# Altium footprint library Nick.PcbLib: 22 footprints (part 1 of 2)
Each footprint in its own frame and in the unit in brackets; x right, y up, seen from the top. Pads: shape width x height; smd on the part's side, far side on the other; paste and mask are expansions set on the pad; w line width, h text height; cw(c..) or ccw(c..) is an arc to the next point about the centre after c.
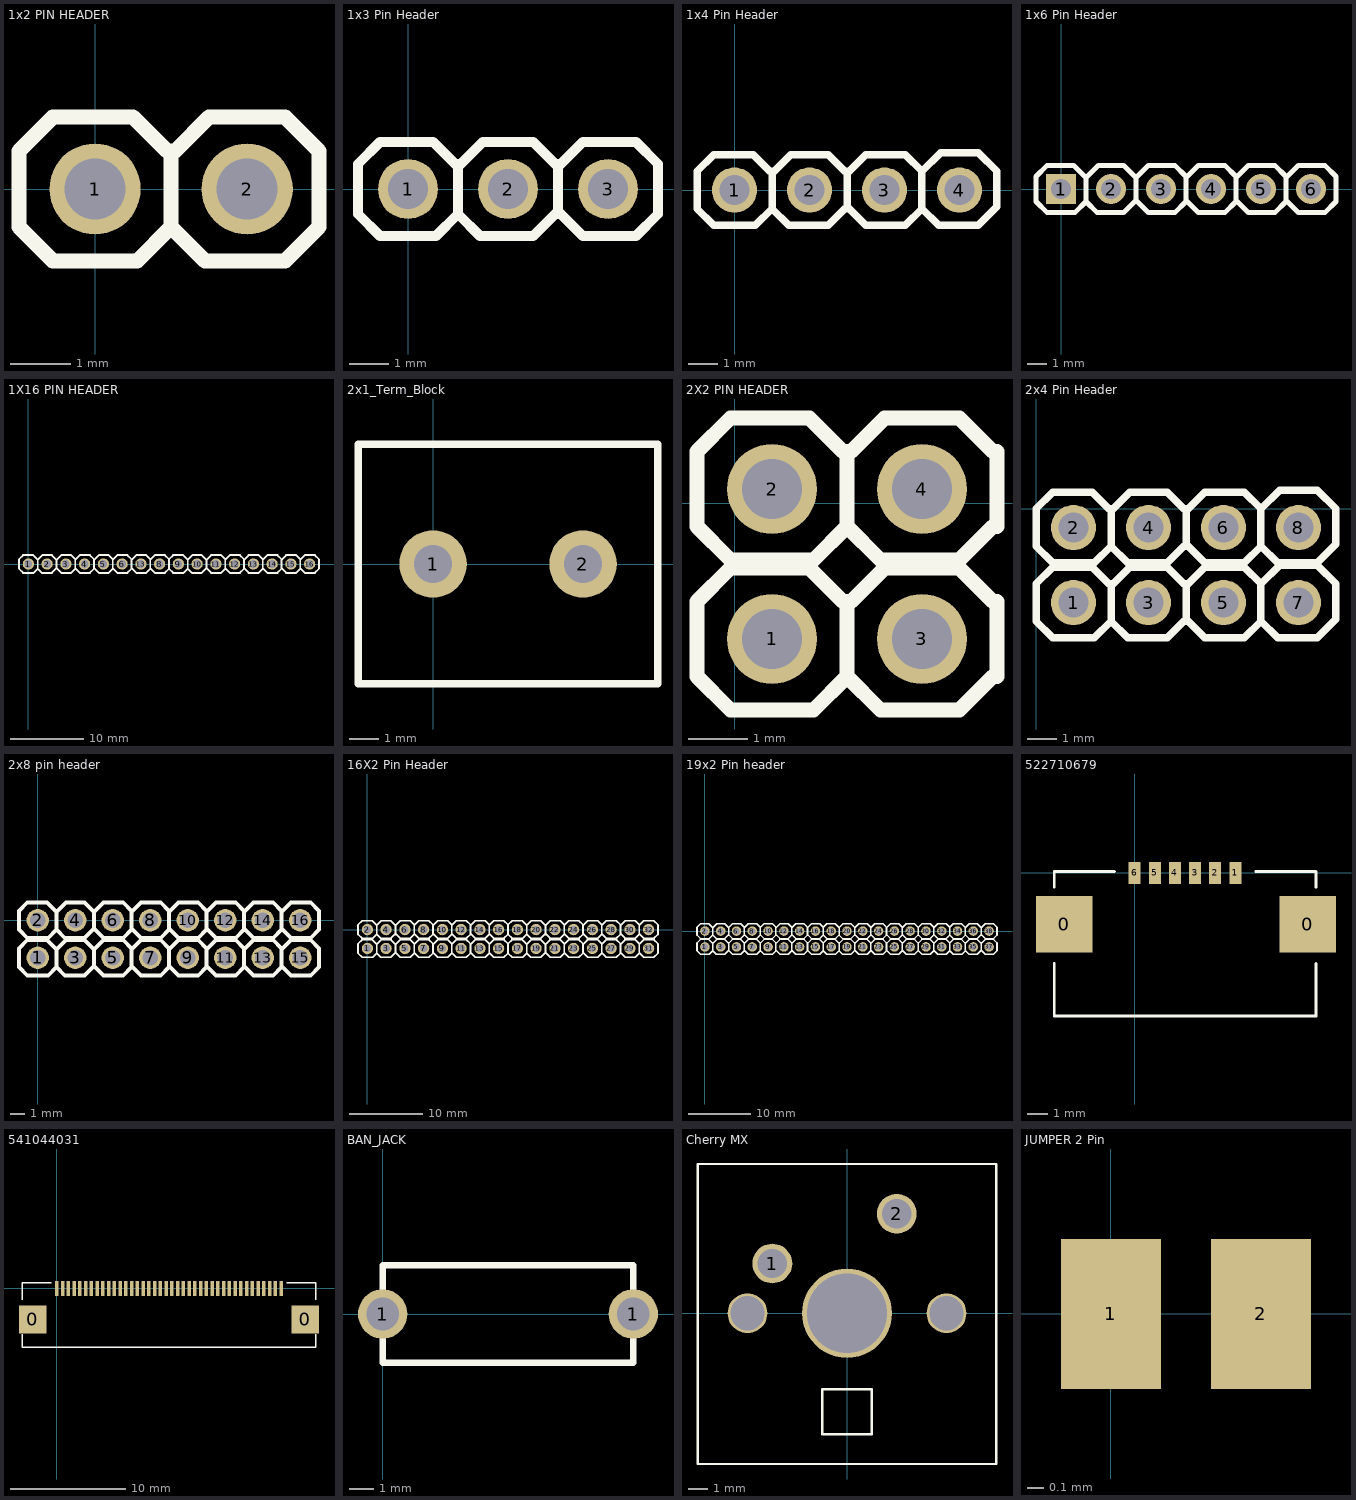
[diagram p0: the footprints below, top view; thin cyan lines are the x and y axes]

## 1x2 PIN HEADER [mil]
pads (2):
  round 60 hole 40.16: 1(0,0) 2(100,0)
Top Overlay:
  lines w10: -25,47.24 -27.76,47.24 ; -27.76,47.24 25,47.24 47.24,25 50,25 ; -27.76,47.24 -50,25 -50,-25 -27.76,-47.24 25,-47.24 27.76,-47.24 50,-25 ; 50,-25 50,25 ; 50,-25 72.24,-47.24 125,-47.24 147.24,-25 147.24,25 125,47.24 75,47.24 52.76,25 50,25

## 1x3 Pin Header [mil]
pads (3):
  round 60 hole 40.16: 1(0,0) 2(100,0) 3(200,0)
Top Overlay:
  lines w10: -25,47.24 -27.76,47.24 ; 225,-47.24 227.76,-47.24 ; 225,47.24 227.76,47.24 ; -27.76,47.24 -50,25 -50,-25 -27.76,-47.24 25,-47.24 27.76,-47.24 50,-25 ; -27.76,47.24 25,47.24 47.24,25 50,25 ; 50,-25 72.24,-47.24 125,-47.24 147.24,-25 150,-25 ; 50,-25 50,25 ; 50,25 52.76,25 75,47.24 125,47.24 147.24,25 150,25 ; 150,-25 152.76,-25 175,-47.24 227.76,-47.24 ; 150,-25 150,25 ; 150,25 152.76,25 175,47.24 227.76,47.24 ; 227.76,-47.24 250,-25 250,25 227.76,47.24

## 1x4 Pin Header [mil]
pads (4):
  round 60 hole 40.16: 1(0,0) 2(100,0) 3(200,0) 4(300,0)
Top Overlay:
  lines w10: -25,47.24 -27.76,47.24 ; 225,-47.24 227.76,-47.24 ; 225,47.24 227.76,47.24 ; -27.76,47.24 -50,25 -50,-25 -27.76,-47.24 25,-47.24 27.76,-47.24 50,-25 ; -27.76,47.24 25,47.24 47.24,25 50,25 ; 50,-25 72.24,-47.24 125,-47.24 147.24,-25 150,-25 ; 50,-25 50,25 ; 50,25 52.76,25 75,47.24 125,47.24 147.24,25 150,25 ; 150,-25 152.76,-25 175,-47.24 227.76,-47.24 ; 150,-25 150,25 ; 150,25 152.76,25 175,47.24 227.76,47.24 ; 227.76,-47.24 250,-25 ; 227.76,47.24 250,25 ; 250,-25 272.24,-47.24 325,-47.24 347.24,-25 350,-22.24 350,25 ; 250,-25 250,25 ; 250,25 275,50 325,50 ; 325,50 350,25 ; 325,50 350,25

## 1x6 Pin Header [mil]
pads (6):
  rect 60x60 hole 40.16: 1(0,0)
  round 60 hole 40.16: 2(100,0) 3(200,0) 4(300,0) 5(400,0) 6(500,0)
Top Overlay:
  lines w10: -25,47.24 -27.76,47.24 ; 225,47.24 227.76,47.24 ; 252.76,-25 275,-47.24 327.76,-47.24 350,-25 ; 252.76,25 275,47.24 327.76,47.24 350,25 ; 352.76,-25 375,-47.24 427.76,-47.24 450,-25 ; 352.76,25 375,47.24 427.76,47.24 450,25 ; 452.76,-25 475,-47.24 527.76,-47.24 550,-25 ; 452.76,25 475,47.24 527.76,47.24 550,25 ; -27.76,47.24 -50,25 -50,-25 -27.76,-47.24 27.76,-47.24 50,-25 ; -27.76,47.24 25,47.24 47.24,25 50,25 ; 50,-25 72.24,-47.24 125,-47.24 147.24,-25 150,-25 ; 50,-25 50,25 ; 50,25 52.76,25 75,47.24 125,47.24 147.24,25 150,25 ; 150,-25 152.76,-25 175,-47.24 227.76,-47.24 250,-25 ; 150,-25 150,25 ; 150,25 152.76,25 175,47.24 227.76,47.24 ; 227.76,47.24 250,25 ; 250,-25 250,25 ; 250,-25 250,25 ; 350,-25 350,25 ; 350,-25 350,25 ; 450,-25 450,25 ; 450,-25 450,25 ; 550,-25 550,25 ; 550,-25 550,25

## 1X16 PIN HEADER [mil]
pads (16):
  round 60 hole 40.16: 1(0,0) 2(100,0) 3(200,0) 4(300,0) 5(400,0) 6(500,0) 8(700,0) 9(800,0) 10(900,0) 11(1000,0) 12(1100,0) 13(600,0) 13(1200,0) 14(1300,0) 15(1400,0) 16(1500,0)
Top Overlay:
  lines w10: -25,47.24 -27.76,47.24 ; 225,-47.24 227.76,-47.24 ; 225,47.24 227.76,47.24 ; 252.76,-25 275,-47.24 327.76,-47.24 350,-25 ; 252.76,25 275,47.24 327.76,47.24 350,25 ; 352.76,-25 375,-47.24 427.76,-47.24 450,-25 ; 352.76,25 375,47.24 427.76,47.24 450,25 ; 452.76,-25 475,-47.24 527.76,-47.24 550,-25 ; 452.76,25 475,47.24 527.76,47.24 550,25 ; 552.76,-25 575,-47.24 627.76,-47.24 650,-25 ; 552.76,25 575,47.24 627.76,47.24 650,25 ; 652.76,-25 675,-47.24 727.76,-47.24 750,-25 ; 652.76,25 675,47.24 727.76,47.24 750,25 ; 775,47.24 772.24,47.24 ; 1025,-47.24 1027.76,-47.24 ; 1025,47.24 1027.76,47.24 ; 1052.76,-25 1075,-47.24 1127.76,-47.24 1150,-25 ; 1052.76,25 1075,47.24 1127.76,47.24 1150,25 ; 1152.76,-25 1175,-47.24 1227.76,-47.24 1250,-25 ; 1152.76,25 1175,47.24 1227.76,47.24 1250,25 ; 1252.76,-25 1275,-47.24 1327.76,-47.24 1350,-25 ; 1252.76,25 1275,47.24 1327.76,47.24 1350,25 ; 1352.76,-25 1375,-47.24 1427.76,-47.24 1450,-25 ; 1352.76,25 1375,47.24 1427.76,47.24 1450,25 ; 1452.76,-25 1475,-47.24 1527.76,-47.24 1550,-25 1550,25 1527.76,47.24 1475,47.24 1452.76,25 ; -27.76,47.24 25,47.24 47.24,25 50,25 ; -27.76,47.24 -50,25 -50,-25 -27.76,-47.24 25,-47.24 27.76,-47.24 50,-25 ; 50,-25 50,25 ; 50,-25 72.24,-47.24 125,-47.24 147.24,-25 150,-25 ; 50,25 52.76,25 75,47.24 125,47.24 147.24,25 150,25 ; 150,-25 150,25 ; 150,-25 152.76,-25 175,-47.24 227.76,-47.24 ; 150,25 152.76,25 175,47.24 227.76,47.24 ; 227.76,-47.24 250,-25 ; 227.76,47.24 250,25 ; 250,-25 250,25 ; 250,-25 250,25 ; 350,-25 350,25 ; 350,-25 350,25 ; 450,-25 450,25 ; 450,-25 450,25 ; 550,-25 550,25 ; 550,-25 550,25 ; 650,-25 650,25 ; 650,-25 650,25 ; 750,-25 750,25 ; 750,-25 750,25 ; 750,-25 772.24,-47.24 825,-47.24 827.76,-47.24 850,-25 ; 750,25 772.24,47.24 ; 772.24,47.24 825,47.24 847.24,25 850,25 ; 850,-25 850,25 ; 850,-25 872.24,-47.24 925,-47.24 947.24,-25 950,-25 ; 850,25 852.76,25 875,47.24 925,47.24 947.24,25 950,25 ; 950,-25 950,25 ; 950,-25 952.76,-25 975,-47.24 1027.76,-47.24 ; 950,25 952.76,25 975,47.24 1027.76,47.24 ; 1027.76,-47.24 1050,-25 ; 1027.76,47.24 1050,25 ; 1050,-25 1050,25 ; 1050,-25 1050,25 ; 1150,-25 1150,25 ; 1150,-25 1150,25 ; 1250,-25 1250,25 ; 1250,-25 1250,25 ; 1350,-25 1350,25 ; 1350,-25 1350,25 ; 1450,-25 1450,25 ; 1450,-25 1450,25

## 2x1_Term_Block [mil] "Phoenix Contact 1729128"
pads (2):
  round 90 hole 51.18: 1(0,0) 2(200,0)
Top Overlay:
  lines w10: -100,-159.45 -100,159.45 300,159.45 300,-159.45 -100,-159.45
3D body: height 10, standoff 0, extent -60,300 -60,300
3D body "Term_Block.step": height 393.7, standoff -137.8, extent -122.44,-159.45 300,159.45

## 2X2 PIN HEADER [mm]
pads (4):
  round 1.524 hole 1.02: 1(0.63,-2.295) 2(0.63,0.245) 3(3.17,-2.295) 4(3.17,0.245)
Top Overlay:
  lines w0.254: -0.005,-1.095 -0.075,-1.095 ; -0.005,1.445 -0.075,1.445 ; -0.075,-1.095 1.265,-1.095 1.83,-1.66 1.9,-1.66 ; -0.075,-1.095 -0.64,-1.66 -0.64,-2.93 -0.075,-3.495 1.265,-3.495 1.335,-3.495 1.9,-2.93 ; -0.075,1.445 1.265,1.445 1.83,0.88 1.9,0.88 ; -0.075,1.445 -0.64,0.88 -0.64,-0.39 -0.075,-0.955 1.265,-0.955 1.335,-0.955 1.9,-0.39 ; 1.9,-2.93 1.9,-1.66 ; 1.9,-2.93 2.465,-3.495 3.805,-3.495 4.37,-2.93 4.44,-2.93 4.44,-1.66 4.37,-1.66 3.805,-1.095 2.535,-1.095 1.97,-1.66 1.9,-1.66 ; 1.9,-0.39 1.9,0.88 ; 1.9,-0.39 2.465,-0.955 3.805,-0.955 4.37,-0.39 4.44,-0.39 4.44,0.88 4.37,0.88 3.805,1.445 2.535,1.445 1.97,0.88 1.9,0.88

## 2x4 Pin Header [mil]
pads (8):
  round 60 hole 40.16: 1(50,-125) 2(50,-25) 3(150,-125) 4(150,-25) 5(250,-125) 6(250,-25) 7(350,-125) 8(350,-25)
Top Overlay:
  lines w10: 25,-77.76 22.24,-77.76 ; 25,22.24 22.24,22.24 ; 275,-172.24 277.76,-172.24 ; 275,-77.76 277.76,-77.76 ; 275,-72.24 277.76,-72.24 ; 275,22.24 277.76,22.24 ; 22.24,-77.76 75,-77.76 97.24,-100 100,-100 ; 22.24,-77.76 0,-100 0,-150 22.24,-172.24 75,-172.24 77.76,-172.24 100,-150 ; 22.24,22.24 75,22.24 97.24,0 100,0 ; 22.24,22.24 0,0 0,-50 22.24,-72.24 75,-72.24 77.76,-72.24 100,-50 ; 100,-150 100,-100 ; 100,-150 122.24,-172.24 175,-172.24 197.24,-150 200,-150 ; 100,-100 102.76,-100 125,-77.76 175,-77.76 197.24,-100 200,-100 ; 100,-50 100,0 ; 100,-50 122.24,-72.24 175,-72.24 197.24,-50 200,-50 ; 100,0 102.76,0 125,22.24 175,22.24 197.24,0 200,0 ; 200,-150 200,-100 ; 200,-150 202.76,-150 225,-172.24 277.76,-172.24 ; 200,-100 202.76,-100 225,-77.76 277.76,-77.76 ; 200,-50 200,0 ; 200,-50 202.76,-50 225,-72.24 277.76,-72.24 ; 200,0 202.76,0 225,22.24 277.76,22.24 ; 277.76,-172.24 300,-150 ; 277.76,-77.76 300,-100 ; 277.76,-72.24 300,-50 ; 277.76,22.24 300,0 ; 300,-150 300,-100 ; 300,-150 322.24,-172.24 375,-172.24 397.24,-150 400,-147.24 400,-100 ; 300,-100 325,-75 375,-75 ; 300,-50 300,0 ; 300,-50 322.24,-72.24 375,-72.24 397.24,-50 400,-47.24 400,0 ; 300,0 325,25 375,25 ; 375,-75 400,-100 ; 375,-75 400,-100 ; 375,25 400,0 ; 375,25 400,0
3D body "pin_header_awl254-da-g08d.stp": height 98.43, standoff -216.54, extent 1.58,-139.37 401.58,367.72

## 2x8 pin header [mil]
pads (16):
  round 60 hole 40.16: 1(0,-100) 2(0,0) 3(100,-100) 4(100,0) 5(200,-100) 6(200,0) 7(300,-100) 8(300,0) 9(400,-100) 10(400,0) 11(500,-100) 12(500,0) 13(600,-100) 14(600,0) 15(700,-100) 16(700,0)
Top Overlay:
  lines w10: -25,-52.76 -27.76,-52.76 ; -25,47.24 -27.76,47.24 ; 225,-147.24 227.76,-147.24 ; 225,-52.76 227.76,-52.76 ; 225,-47.24 227.76,-47.24 ; 225,47.24 227.76,47.24 ; 252.76,-125 275,-147.24 327.76,-147.24 350,-125 ; 252.76,-75 275,-52.76 327.76,-52.76 350,-75 ; 252.76,-25 275,-47.24 327.76,-47.24 350,-25 ; 252.76,25 275,47.24 327.76,47.24 350,25 ; 352.76,-125 375,-147.24 427.76,-147.24 450,-125 ; 352.76,-75 375,-52.76 427.76,-52.76 450,-75 ; 352.76,-25 375,-47.24 427.76,-47.24 450,-25 ; 352.76,25 375,47.24 427.76,47.24 450,25 ; 452.76,-125 475,-147.24 527.76,-147.24 550,-125 ; 452.76,-75 475,-52.76 527.76,-52.76 550,-75 ; 452.76,-25 475,-47.24 527.76,-47.24 550,-25 ; 452.76,25 475,47.24 527.76,47.24 550,25 ; 552.76,-125 575,-147.24 627.76,-147.24 650,-125 ; 552.76,-75 575,-52.76 627.76,-52.76 650,-75 ; 552.76,-25 575,-47.24 627.76,-47.24 650,-25 ; 552.76,25 575,47.24 627.76,47.24 650,25 ; 652.76,-125 675,-147.24 727.76,-147.24 750,-125 750,-75 727.76,-52.76 675,-52.76 652.76,-75 ; 652.76,-25 675,-47.24 727.76,-47.24 750,-25 750,25 727.76,47.24 675,47.24 652.76,25 ; -27.76,-52.76 -50,-75 -50,-125 -27.76,-147.24 25,-147.24 27.76,-147.24 50,-125 ; -27.76,-52.76 25,-52.76 47.24,-75 50,-75 ; -27.76,47.24 25,47.24 47.24,25 50,25 ; -27.76,47.24 -50,25 -50,-25 -27.76,-47.24 25,-47.24 27.76,-47.24 50,-25 ; 50,-125 72.24,-147.24 125,-147.24 147.24,-125 150,-125 ; 50,-125 50,-75 ; 50,-75 52.76,-75 75,-52.76 125,-52.76 147.24,-75 150,-75 ; 50,-25 50,25 ; 50,-25 72.24,-47.24 125,-47.24 147.24,-25 150,-25 ; 50,25 52.76,25 75,47.24 125,47.24 147.24,25 150,25 ; 150,-125 152.76,-125 175,-147.24 227.76,-147.24 ; 150,-125 150,-75 ; 150,-75 152.76,-75 175,-52.76 227.76,-52.76 ; 150,-25 150,25 ; 150,-25 152.76,-25 175,-47.24 227.76,-47.24 ; 150,25 152.76,25 175,47.24 227.76,47.24 ; 227.76,-147.24 250,-125 ; 227.76,-52.76 250,-75 ; 227.76,-47.24 250,-25 ; 227.76,47.24 250,25 ; 250,-125 250,-75 ; 250,-125 250,-75 ; 250,-25 250,25 ; 250,-25 250,25 ; 350,-125 350,-75 ; 350,-125 350,-75 ; 350,-25 350,25 ; 350,-25 350,25 ; 450,-125 450,-75 ; 450,-125 450,-75 ; 450,-25 450,25 ; 450,-25 450,25 ; 550,-125 550,-75 ; 550,-125 550,-75 ; 550,-25 550,25 ; 550,-25 550,25 ; 650,-125 650,-75 ; 650,-125 650,-75 ; 650,-25 650,25 ; 650,-25 650,25
3D body: height 10, standoff 0, extent 300,-50 300,-50
3D body "pin_header_awl254-dg-g16d.stp": height 334.65, standoff -118.11, extent -50,-150 750,50

## 16X2 Pin Header [mil]
pads (32):
  round 60 hole 40.16: 1(0,-100) 2(0,0) 3(100,-100) 4(100,0) 5(200,-100) 6(200,0) 7(300,-100) 8(300,0) 9(400,-100) 10(400,0) 11(500,-100) 12(500,0) 13(600,-100) 14(600,0) 15(700,-100) 16(700,0) 17(800,-100) 18(800,0) 19(900,-100) 20(900,0) 21(1000,-100) 22(1000,0) 23(1100,-100) 24(1100,0) 25(1200,-100) 26(1200,0) 27(1300,-100) 28(1300,0) 29(1400,-100) 30(1400,0) 31(1500,-100) 32(1500,0)
Top Overlay:
  drawing of 288 lines, arcs and shapes, not listed
3D body "pin_header_awl254-dg-g32d.stp": height 336.61, standoff -116.14, extent -50.78,-151.18 1549.22,48.82

## 19x2 Pin header [mil]
pads (38):
  round 60 hole 40.16: 1(0,-100) 2(0,0) 3(100,-100) 4(100,0) 5(200,-100) 6(200,0) 7(300,-100) 8(300,0) 9(400,-100) 10(400,0) 11(500,-100) 12(500,0) 13(600,-100) 14(600,0) 15(700,-100) 16(700,0) 17(800,-100) 18(800,0) 19(900,-100) 20(900,0) 21(1000,-100) 22(1000,0) 23(1100,-100) 24(1100,0) 25(1200,-100) 26(1200,0) 27(1300,-100) 28(1300,0) 29(1400,-100) 30(1400,0) 31(1500,-100) 32(1500,0) 33(1600,-100) 34(1600,0) 35(1700,-100) 36(1700,0) 37(1800,-100) 38(1800,0)
Top Overlay:
  drawing of 352 lines, arcs and shapes, not listed
3D body: height 10, standoff 0, extent 200,-50 200,-50
3D body "pin_header_awl254-dg-g38d.stp": height 334.65, standoff -118.11, extent -50,-150 1850,50
3D body: height 10, standoff 0, extent 100,0 100,0

## 522710679 [mm]
pads (8):
  rect 2.8x2.8 smd: 0(-3.5,-2.55) 0(8.6,-2.55)
  rect 0.6x1.1 smd: 1(5,0) 2(4,0) 3(3,0) 4(2,0) 5(1,0) 6(0,0)
Top Overlay:
  lines w0.127: -4,-4.5 -4,-7.107 9,-7.107 9.007,-7.115 9.007,-4.5 ; -4,0.071 -1,0.071 ; -3.993,-0.715 -3.993,0.063 ; 6.007,0.071 9.007,0.071 9.007,-0.715
3D body "Molex-522710679.stp": height 3, standoff 0, extent -3.993,-7.115 9.007,0.285

## 541044031 [mm] "Easy-On FFC/FPC Connector, 0.50mm Pitch, Slider Series, Right-Angle, Bottom Contact, 2.00mm Height, 40 Circuits,"
pads (42):
  rect 2.4x2.4 smd: 0(-2.1,-2.7) 0(21.6,-2.7)
  rect 0.3x1.3 smd: 1(19.5,0) 2(19,0) 3(18.5,0) 4(18,0) 5(17.5,0) 6(17,0) 7(16.5,0) 8(16,0) 9(15.5,0) 10(15,0) 11(14.5,0) 12(14,0) 13(13.5,0) 14(13,0) 15(12.5,0) 16(12,0) 17(11.5,0) 18(11,0) 19(10.5,0) 20(10,0) 21(9.5,0) 22(9,0) 23(8.5,0) 24(8,0) 25(7.5,0) 26(7,0) 27(6.5,0) 28(6,0) 29(5.5,0) 30(5,0) 31(4.5,0) 32(4,0) 33(3.5,0) 34(3,0) 35(2.5,0) 36(2,0) 37(1.5,0) 38(1,0) 39(0.5,0) 40(0,0)
Top Overlay:
  lines w0.127: -3,-4 -3,-5.1 22.5,-5.1 ; -3,-1 -3,0.5 -0.5,0.5 ; 20,0.5 22.5,0.5 ; 22.5,-4 22.5,-5.1 ; 22.5,-1 22.5,0.5 ; 22.5,-5.1 22.5,-5.1 ; 22.5,0.5 22.5,0.5
3D body "Molex-541044031.stp": height 2.02, standoff -0.03, extent -3,-5.1 22.5,0.5

## BAN_JACK [mm] "BELFUSE-105-0752-001"
pads (2):
  round 2 hole 1.321: 1(0,0) 1(10.16,0)
Top Overlay:
  lines w0.254: 0,-1.981 10.16,-1.981 10.16,1.981 0,1.981 ; 0,-1.981 0,1.981 ; 0,-1.981 0,1.981
3D body "Banana_Jack.stp": height 5.54, standoff -2.8, extent -0.254,-1.981 10.374,1.981

## Cherry MX [mil]
pads (5):
  round 80 hole 59: 1(-150,100) 2(100,200)
  round 80 hole 69: ""(-200,0) ""(200,0)
  round 180 hole 160: ""(0,0)
Top Overlay:
  lines w5: -300,-303 -300,300 300,300 300,-303 -300,-303 ; -50,-243 -50,-153 50,-153 50,-243 -50,-243
3D body "User Library-MX-Blue.STEP": height 610.08, standoff -134.02, extent -306.09,-307 308.09,307.17

## JUMPER 2 Pin [mm]
pads (2):
  rect 0.6x0.9 smd: 1(0,0) 2(0.9,0)